# Altium footprint library QSTL_LED_PCB.PcbLib: 3 footprints
Each footprint in its own frame and in the unit in brackets; x right, y up, seen from the top. Pads: shape width x height; smd on the part's side, far side on the other; paste and mask are expansions set on the pad; w line width, h text height; cw(c..) or ccw(c..) is an arc to the next point about the centre after c.
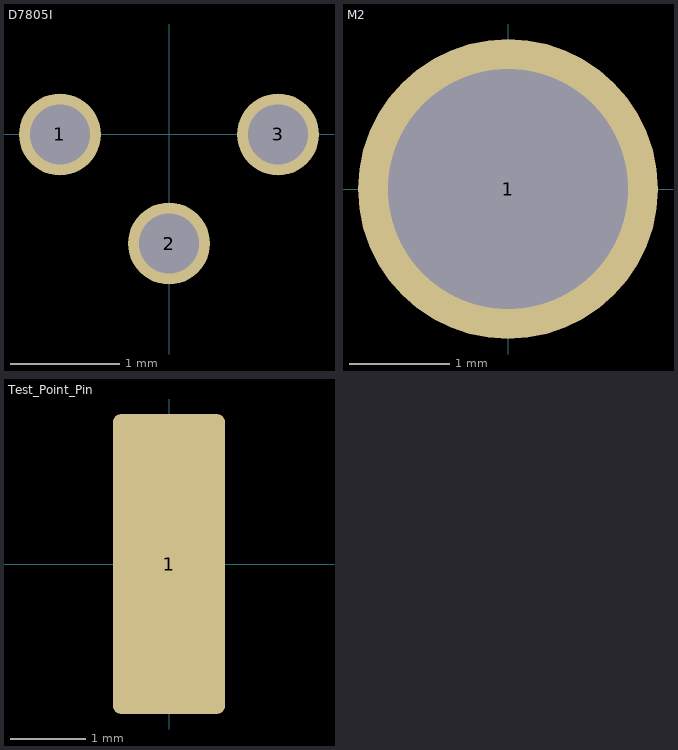
[diagram p0: the footprints below, top view; thin cyan lines are the x and y axes]

## D7805I [mm]
pads (3):
  round 0.75 hole 0.55: 1(-1,0) 2(0,-1) 3(1,0)

## M2 [mm]
pads (1):
  round 3 hole 2.4: 1(0,0)

## Test_Point_Pin [mm]
pads (1):
  rrect15% 1.5x4 smd: 1(0,0)